# Altium schematic symbol library Schematics.SchLib: 3 symbols
Pins are listed as number, name and electrical type; pins without a type are passive.

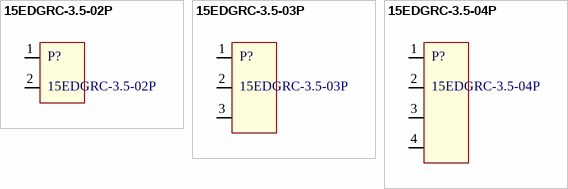
[diagram p0: symbols 15EDGRC-3.5-02P to 15EDGRC-3.5-04P]

## 15EDGRC-3.5-02P
designator P?
2 pin 3.5mm male terminal
footprint 15EDGRC-3.5-02P
pins: 1, 2

## 15EDGRC-3.5-03P
designator P?
3 pin 3.5mm male terminal
footprint 15EDGRC-3.5-03P
pins: 1, 2, 3

## 15EDGRC-3.5-04P
designator P?
4 pin 3.5mm male terminal
footprint 15EDGRC-3.5-04P
pins: 1, 2, 3, 4